# Altium integrated library Teensy.IntLib: 3 symbols
Pins are listed as number, name and electrical type; pins without a type are passive.

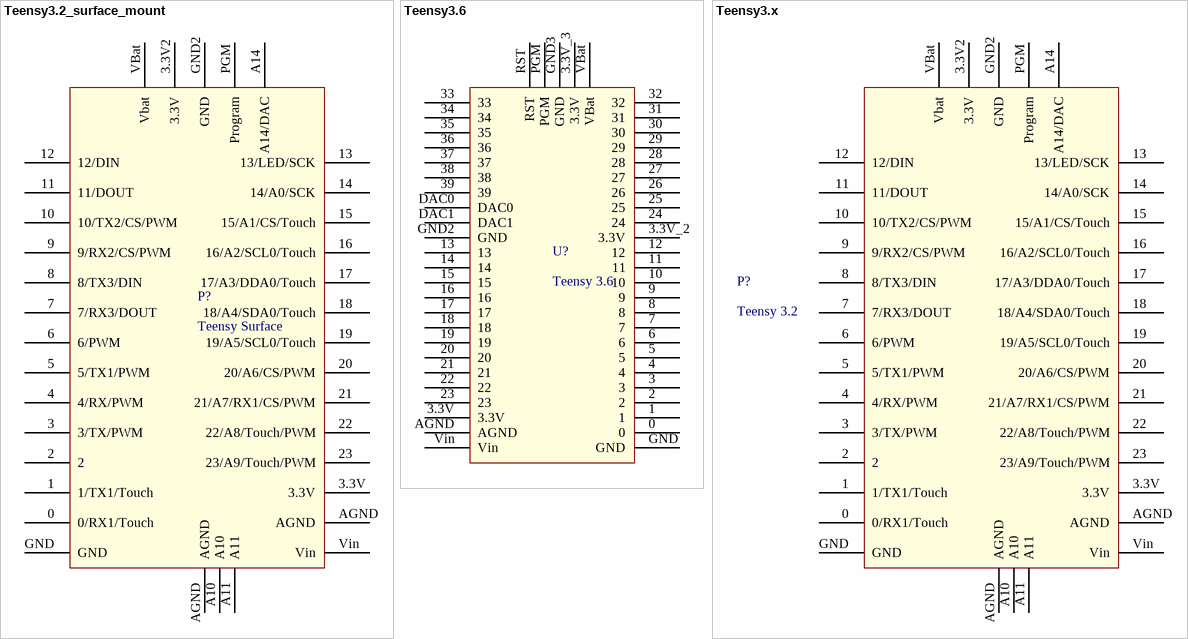
[diagram p0: symbols Teensy3.2_surface_mount to Teensy3.x]

## Teensy3.2_surface_mount
designator P?, comment Teensy Surface
footprint TEENSY3.2_surface_mount
pins: 0 0/RX1/Touch, 1 1/TX1/Touch, 2, 3 3/TX/PWM, 3.3V, 3.3V2 3.3V, 4 4/RX/PWM, 5 5/TX1/PWM, 6 6/PWM, 7 7/RX3/DOUT, 8 8/TX3/DIN, 9 9/RX2/CS/PWM, 10 10/TX2/CS/PWM, 11 11/DOUT, 12 12/DIN, 13 13/LED/SCK, 14 14/A0/SCK, 15 15/A1/CS/Touch, 16 16/A2/SCL0/Touch, 17 17/A3/DDA0/Touch, 18 18/A4/SDA0/Touch, 19 19/A5/SCL0/Touch, 20 20/A6/CS/PWM, 21 21/A7/RX1/CS/PWM, 22 22/A8/Touch/PWM, 23 23/A9/Touch/PWM, A10, A11, A14 A14/DAC, AGND, AGND, GND, GND2 GND, PGM Program, VBat Vbat, Vin

## Teensy3.6
designator U?, comment Teensy 3.6
footprint Teensy 3.6
pins: 0, 1, 2, 3, 3.3V, 3.3V_2 3.3V, 3.3V_3 3.3V, 4, 5, 6, 7, 8, 9, 10, 11, 12, 13, 14, 15, 16, 17, 18, 19, 20, 21, 22, 23, 24, 25, 26, 27, 28, 29, 30, 31, 32, 33, 34, 35, 36, 37, 38, 39, AGND, DAC0, DAC1, GND, GND2 GND, GND3 GND, PGM, RST, VBat, Vin

## Teensy3.x
designator P?, comment Teensy 3.2
footprint Teensy3.x
pins: 0 0/RX1/Touch, 1 1/TX1/Touch, 2, 3 3/TX/PWM, 3.3V, 3.3V2 3.3V, 4 4/RX/PWM, 5 5/TX1/PWM, 6 6/PWM, 7 7/RX3/DOUT, 8 8/TX3/DIN, 9 9/RX2/CS/PWM, 10 10/TX2/CS/PWM, 11 11/DOUT, 12 12/DIN, 13 13/LED/SCK, 14 14/A0/SCK, 15 15/A1/CS/Touch, 16 16/A2/SCL0/Touch, 17 17/A3/DDA0/Touch, 18 18/A4/SDA0/Touch, 19 19/A5/SCL0/Touch, 20 20/A6/CS/PWM, 21 21/A7/RX1/CS/PWM, 22 22/A8/Touch/PWM, 23 23/A9/Touch/PWM, A10, A11, A14 A14/DAC, AGND, AGND, GND, GND2 GND, PGM Program, VBat Vbat, Vin